# Altium footprint library SOP.PcbLib: 27 footprints (part 1 of 2)
Each footprint in its own frame and in the unit in brackets; x right, y up, seen from the top. Pads: shape width x height; smd on the part's side, far side on the other; paste and mask are expansions set on the pad; w line width, h text height; cw(c..) or ccw(c..) is an arc to the next point about the centre after c.
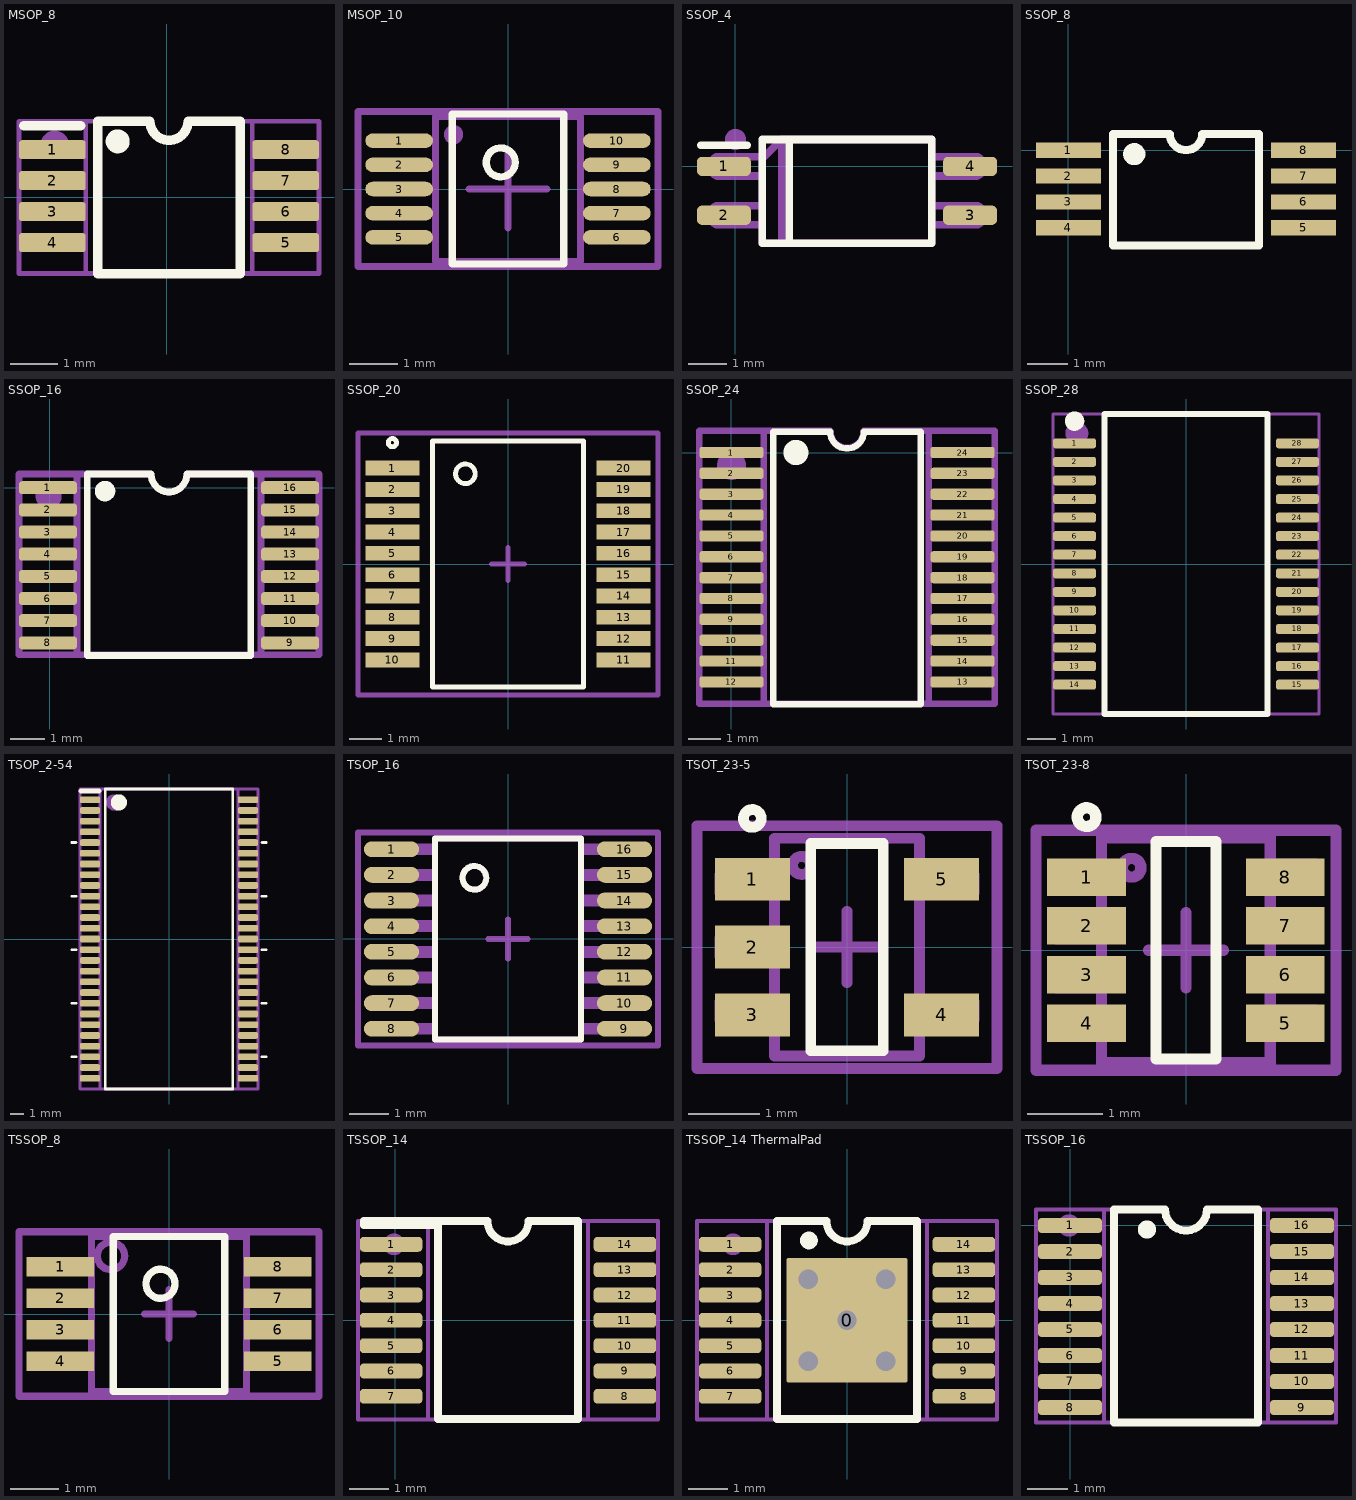
[diagram p0: the footprints below, top view; thin cyan lines are the x and y axes]

## MSOP_8 [mm]
pads (8):
  rrect30% 1.4x0.4 smd: 1(-2.4,1) 2(-2.4,0.35) 3(-2.4,-0.3) 4(-2.4,-0.95) 5(2.5,-0.95) 6(2.5,-0.3) 7(2.5,0.35) 8(2.5,1)
Top Overlay:
  circle w0.25: c-1.027,1.175 r0.127
  lines w0.2: -3,1.5 -1.8,1.5 ; -1.45,-1.6 1.55,-1.6 1.55,1.6 0.45,1.6 cw(c0.05,1.6) -0.35,1.6 -1.45,1.6 -1.45,-1.6
Mechanical 8:
  circle w0.4: c-2.35,1.1 r0.1
  lines w0.1: -1.7,-1.6 -1.7,1.6 ; 1.8,-1.6 1.8,1.6 ; -3.1,-1.6 3.2,-1.6 3.2,1.6 0.45,1.6 cw(c0.05,1.6) -0.35,1.6 -3.1,1.6 -3.1,-1.6
  text ".Designator" at -1.45,-0.4 h1.8
3D body "mSOP-8.step": height 1.1, standoff 0, extent -2.45,-1.5 2.55,1.5

## MSOP_10 [mm]
height 1.1
pads (10):
  oval 1.4x0.3 smd: 1(-2.25,1) 2(-2.25,0.5) 3(-2.25,0) 4(-2.25,-0.5) 5(-2.25,-1) 6(2.25,-1) 7(2.25,-0.5) 8(2.25,0) 9(2.25,0.5) 10(2.25,1)
Top Overlay:
  circle w0.15: c-0.15,0.55 r0.3
  lines w0.15: -1.15,-1.55 -1.15,1.55 1.15,1.55 1.15,-1.55 -1.15,-1.55
  text "." at -2.65,1.6 h0.1
Top Courtyard:
  lines w0.15: -0.8,0 0,0 ; 0,-0.8 0,0 ; 0,0.8 0,0 ; 0.8,0 0,0 ; -3.1,-1.6 -3.1,1.6 3.1,1.6 3.1,-1.6 -3.1,-1.6
Mechanical 29:
  circle w0.15: c-1.125,1.125 r0.125
  lines w0.15: -1.5,-1.075 -1.5,-0.925 ; -1.5,-0.575 -1.5,-0.425 ; -1.5,-0.075 -1.5,0.075 ; -1.5,0.45 -1.5,0.6 ; -1.5,0.925 -1.5,1.075 ; 1.5,-1.075 1.5,-0.925 ; 1.5,-0.575 1.5,-0.425 ; 1.5,-0.075 1.5,0.075 ; 1.5,0.45 1.5,0.6 ; 1.5,0.925 1.5,1.075 ; -1.5,-1.5 0,-1.5 1.5,-1.5 1.5,0 1.5,1.5 0,1.5 -1.5,1.5 -1.5,0 -1.5,-1.5
  text ".Designator" at -1.3,-0.3 h1
3D body "MSOP-10.STEP": height 1.05, standoff 0, extent -2.513,-1.525 2.514,1.475

## SSOP_4 [mm]
pads (4):
  rrect50% 1.4x0.5 smd: 1(-0.3,0) 2(-0.3,-1.27) 3(6.1,-1.27) 4(6.1,0)
Top Overlay:
  lines w0.2: -0.9,0.55 0.3,0.55 ; 1.4,-2 1.4,0.7 ; 0.7,-2 5.1,-2 5.1,0.7 0.7,0.7 0.7,-2
Mechanical 8:
  circle w0.3: c0,0.7 r0.124
  lines w0.2: 0.7,-1.52 -0.45,-1.52 cw(c-0.45,-1.37) -0.6,-1.37 -0.6,-1.17 cw(c-0.45,-1.17) -0.45,-1.02 0.7,-1.02 ; 0.7,-0.25 -0.45,-0.25 cw(c-0.45,-0.1) -0.6,-0.1 -0.6,0.1 cw(c-0.45,0.1) -0.45,0.25 0.7,0.25 ; 1.2,-2 1.2,0.7 ; 5.1,-1.52 6.25,-1.52 ccw(c6.25,-1.37) 6.4,-1.37 6.4,-1.17 ccw(c6.25,-1.17) 6.25,-1.02 5.1,-1.02 ; 5.1,-0.25 6.25,-0.25 ccw(c6.25,-0.1) 6.4,-0.1 6.4,0.1 ccw(c6.25,0.1) 6.25,0.25 5.1,0.25 ; 1.2,0.7 5.1,0.7 5.1,-2 0.7,-2 0.7,0.2 1.2,0.7
  text ".Designator" at 1.6,-1.15 h1.5
3D body "SSOP-4.step": height 2.05, standoff 0.03, extent -0.6,-2 6.4,0.7

## SSOP_8 [mm]
pads (8):
  rect 1.6x0.38 smd: 1(0,0) 2(0,-0.64) 3(0,-1.28) 4(0,-1.92) 5(5.8,-1.92) 6(5.8,-1.28) 7(5.8,-0.64) 8(5.8,0)
Top Overlay:
  circle w0.3: c1.624,-0.1 r0.124
  lines w0.2: 1.1,-2.35 1.1,0.4 2.5,0.4 ccw(c2.9,0.4) 3.3,0.4 4.7,0.4 4.7,-2.35 1.1,-2.35
3D body "SSOP-8-2.STEP": height 1.3, standoff 0, extent -0.33,-2.715 6.07,0.785

## SSOP_16 [mm]
pads (16):
  rrect50% 1.7x0.38 smd: 1(-0.05,0) 2(-0.05,-0.65) 3(-0.05,-1.3) 4(-0.05,-1.95) 5(-0.05,-2.6) 6(-0.05,-3.25) 7(-0.05,-3.9) 8(-0.05,-4.55) 9(7.05,-4.55) 10(7.05,-3.9) 11(7.05,-3.25) 12(7.05,-2.6) 13(7.05,-1.95) 14(7.05,-1.3) 15(7.05,-0.65) 16(7.05,0)
Top Overlay:
  circle w0.3: c1.624,-0.1 r0.15
  lines w0.2: 1.1,-4.925 5.9,-4.925 5.9,0.4 4.025,0.4 cw(c3.5,0.4) 2.975,0.4 1.1,0.4 1.1,-4.925
Mechanical 8:
  circle w0.4: c-0.03,-0.25 r0.18
  lines w0.2: 0.8,-4.9 0.8,0.4 ; 6.2,-4.9 6.2,0.4 ; -0.9,-4.9 7.9,-4.9 7.9,0.4 4.025,0.4 cw(c3.5,0.4) 2.975,0.4 -0.9,0.4 -0.9,-4.9
  text ".Designator" at 1.25,-2.75 h2.4
3D body "SSOP16.step": height 1.97, standoff -0.01, extent -0.5,-5.462 7.4,0.862

## SSOP_20 [mm] "SOP, 20-Leads, Body 7,20x5,29mm, Pitch 0,65mm, IPC Medium Density"
height 1.98
pads (20):
  rect 1.65x0.45 smd: 1(-3.525,2.925) 2(-3.525,2.275) 3(-3.525,1.625) 4(-3.525,0.975) 5(-3.525,0.325) 6(-3.525,-0.325) 7(-3.525,-0.975) 8(-3.525,-1.625) 9(-3.525,-2.275) 10(-3.525,-2.925) 11(3.525,-2.925) 12(3.525,-2.275) 13(3.525,-1.625) 14(3.525,-0.975) 15(3.525,-0.325) 16(3.525,0.325) 17(3.525,0.975) 18(3.525,1.625) 19(3.525,2.275) 20(3.525,2.925)
Top Overlay:
  circle w0.15: c-1.3,2.75 r0.3
  circle w0.15: c-3.525,3.7 r0.125
  lines w0.15: -2.3,-3.75 2.3,-3.75 2.3,3.75 -2.3,3.75 -2.3,-3.75
Top Courtyard:
  lines w0.15: -0.5,0 0.5,0 ; 0,-0.5 0,0.5 ; -4.575,-4 4.575,-4 4.575,4 -4.575,4 -4.575,-4
3D body "TSOP65P650X125-20N.step": height 1.25, standoff 0, extent -3.25,-3.25 3.25,3.25

## SSOP_24 [mm]
pads (24):
  rrect50% 2x0.35 smd: 1(0,0) 2(0,-0.65) 3(0,-1.3) 4(0,-1.95) 5(0,-2.6) 6(0,-3.25) 7(0,-3.9) 8(0,-4.55) 9(0,-5.2) 10(0,-5.85) 11(0,-6.5) 12(0,-7.15) 13(7.2,-7.15) 14(7.2,-6.5) 15(7.2,-5.85) 16(7.2,-5.2) 17(7.2,-4.55) 18(7.2,-3.9) 19(7.2,-3.25) 20(7.2,-2.6) 21(7.2,-1.95) 22(7.2,-1.3) 23(7.2,-0.65) 24(7.2,0)
Top Overlay:
  circle w0.5: c2.009,0 r0.141
  lines w0.2: 1.3,-7.85 1.3,0.65 3.075,0.65 ccw(c3.6,0.65) 4.125,0.65 5.9,0.65 5.9,-7.85 1.3,-7.85
Mechanical 8:
  circle w0.5: c0,-0.4 r0.2
  lines w0.2: 1,-7.825 1,0.675 ; 6.15,-7.825 6.15,0.675 ; -1,-7.825 -1,0.675 3.075,0.675 ccw(c3.6,0.675) 4.125,0.675 8.2,0.675 8.2,-7.825 -1,-7.825
  text ".Designator" at 4.4,-7 h3
3D body "SSOP24.step": height 1.78, standoff -0.21, extent -0.35,-7.9 7.55,0.73

## SSOP_28 [mm]
pads (28):
  rrect50% 1.5x0.35 smd: 1(-3.9,4.225) 2(-3.9,3.575) 3(-3.9,2.925) 4(-3.9,2.275) 5(-3.9,1.625) 6(-3.9,0.975) 7(-3.9,0.325) 8(-3.9,-0.325) 9(-3.9,-0.975) 10(-3.9,-1.625) 11(-3.9,-2.275) 12(-3.9,-2.925) 13(-3.9,-3.575) 14(-3.9,-4.225) 15(3.9,-4.225) 16(3.9,-3.575) 17(3.9,-2.925) 18(3.9,-2.275) 19(3.9,-1.625) 20(3.9,-0.975) 21(3.9,-0.325) 22(3.9,0.325) 23(3.9,0.975) 24(3.9,1.625) 25(3.9,2.275) 26(3.9,2.925) 27(3.9,3.575) 28(3.9,4.225)
Top Overlay:
  circle w0.34: c-3.9,5 r0.17
  lines w0.2: -2.85,-5.25 2.85,-5.25 2.85,5.25 -2.85,5.25 -2.85,-5.25
Mechanical 8:
  circle w0.4: c-3.82,4.575 r0.2
  lines w0.1: -2.85,-5.25 -2.85,5.25 ; 2.85,-5.25 2.85,5.25 ; -4.65,-5.25 4.65,-5.25 4.65,5.25 -4.65,5.25 -4.65,-5.25
  text ".Designator" at 0.675,-4.075 h3.5
3D body "SSOP-28.step": height 1.95, standoff 0, extent -4.112,-5.25 4.113,5.25

## TSOP_2-54 [mm] "TSOP, 54-Leads, Body 22,22x10,16mm, Pitch 0,80mm, IPC Medium Density"
height 1.2
pads (54):
  rrect50% 1.5x0.5 smd: 1(-5.9,10.4) 2(-5.9,9.6) 3(-5.9,8.8) 4(-5.9,8) 5(-5.9,7.2) 6(-5.9,6.4) 7(-5.9,5.6) 8(-5.9,4.8) 9(-5.9,4) 10(-5.9,3.2) 11(-5.9,2.4) 12(-5.9,1.6) 13(-5.9,0.8) 14(-5.9,0) 15(-5.9,-0.8) 16(-5.9,-1.6) 17(-5.9,-2.4) 18(-5.9,-3.2) 19(-5.9,-4) 20(-5.9,-4.8) 21(-5.9,-5.6) 22(-5.9,-6.4) 23(-5.9,-7.2) 24(-5.9,-8) 25(-5.9,-8.8) 26(-5.9,-9.6) 27(-5.9,-10.4) 28(5.9,-10.4) 29(5.9,-9.6) 30(5.9,-8.8) 31(5.9,-8) 32(5.9,-7.2) 33(5.9,-6.4) 34(5.9,-5.6) 35(5.9,-4.8) 36(5.9,-4) 37(5.9,-3.2) 38(5.9,-2.4) 39(5.9,-1.6) 40(5.9,-0.8) 41(5.9,0) 42(5.9,0.8) 43(5.9,1.6) 44(5.9,2.4) 45(5.9,3.2) 46(5.9,4) 47(5.9,4.8) 48(5.9,5.6) 49(5.9,6.4) 50(5.9,7.2) 51(5.9,8) 52(5.9,8.8) 53(5.9,9.6) 54(5.9,10.4)
Top Overlay:
  circle w0.6: c-3.75,10.2 r0.3
  lines w0.2: -7.25,-8.8 -6.95,-8.8 ; -7.25,-4.8 -6.95,-4.8 ; -7.25,-0.8 -6.95,-0.8 ; -7.25,3.2 -6.95,3.2 ; -7.25,7.2 -6.95,7.2 ; 6.95,-8.8 7.25,-8.8 ; 6.95,-4.8 7.25,-4.8 ; 6.95,-0.8 7.25,-0.8 ; 6.95,3.2 7.25,3.2 ; 6.95,7.2 7.25,7.2 ; -4.75,-11.2 4.75,-11.2 4.75,11.2 -4.75,11.2 -4.75,-11.2
  lines w0.4: -6.55,11.05 -5.25,11.05
Mechanical 8:
  circle w0.6: c-4.1,10.2 r0.3
  lines w0.2: -5.15,-11.2 -5.15,11.2 ; 5.15,-11.2 5.15,11.2 ; -6.65,-11.2 -6.65,11.2 6.65,11.2 6.65,-11.2 -6.65,-11.2
  text ".Designator" at -3.9,-1.15 h4.5
3D body "TSOP2-54.STEP": height 1.3, standoff -0.4, extent -5.86,-11.11 5.9,11.11

## TSOP_16 [mm] "TSOP, 16-Leads, Body 5,00x4,40mm, Pitch 0,65mm, IPC Medium Density"
height 1.2
pads (16):
  oval 1.4x0.4 smd: 1(-2.95,2.275) 2(-2.95,1.625) 3(-2.95,0.975) 4(-2.95,0.325) 5(-2.95,-0.325) 6(-2.95,-0.975) 7(-2.95,-1.625) 8(-2.95,-2.275) 9(2.95,-2.275) 10(2.95,-1.625) 11(2.95,-0.975) 12(2.95,-0.325) 13(2.95,0.325) 14(2.95,0.975) 15(2.95,1.625) 16(2.95,2.275)
Top Overlay:
  circle w0.15: c-0.85,1.55 r0.3
  lines w0.15: -1.85,-2.55 1.85,-2.55 1.85,2.55 -1.85,2.55 -1.85,-2.55
  text "." at -2.9,2.9 h0.1
Top Courtyard:
  lines w0.15: -0.5,0 0.5,0 ; 0,-0.5 0,0.5 ; -3.8,-2.7 3.8,-2.7 3.8,2.7 -3.8,2.7 -3.8,-2.7
Mechanical 29:
  circle w0.15: c-0.85,1.55 r0.3
  lines w0.15: -3.425,-2.35 -3.425,-2.2 -1.85,-2.2 -1.85,-2.35 -3.425,-2.35 ; -3.425,-1.7 -1.85,-1.7 -1.85,-1.55 -3.425,-1.55 -3.425,-1.7 ; -3.425,-1.05 -1.85,-1.05 -1.85,-0.9 -3.425,-0.9 -3.425,-1.05 ; -3.425,-0.4 -1.85,-0.4 -1.85,-0.25 -3.425,-0.25 -3.425,-0.4 ; -3.425,0.25 -1.85,0.25 -1.85,0.4 -3.425,0.4 -3.425,0.25 ; -3.425,0.9 -1.85,0.9 -1.85,1.05 -3.425,1.05 -3.425,0.9 ; -3.425,1.55 -1.85,1.55 -1.85,1.7 -3.425,1.7 -3.425,1.55 ; -3.425,2.2 -1.85,2.2 -1.85,2.35 -3.425,2.35 -3.425,2.2 ; -1.85,-2.55 -1.85,2.55 1.85,2.55 1.85,-2.55 -1.85,-2.55 ; 1.85,-2.35 3.425,-2.35 3.425,-2.2 1.85,-2.2 1.85,-2.35 ; 1.85,-1.7 3.425,-1.7 3.425,-1.55 1.85,-1.55 1.85,-1.7 ; 1.85,-1.05 3.425,-1.05 3.425,-0.9 1.85,-0.9 1.85,-1.05 ; 1.85,-0.4 3.425,-0.4 3.425,-0.25 1.85,-0.25 1.85,-0.4 ; 1.85,0.25 3.425,0.25 3.425,0.4 1.85,0.4 1.85,0.25 ; 1.85,0.9 3.425,0.9 3.425,1.05 1.85,1.05 1.85,0.9 ; 1.85,1.55 3.425,1.55 3.425,1.7 1.85,1.7 1.85,1.55 ; 1.85,2.2 3.425,2.2 3.425,2.35 1.85,2.35 1.85,2.2
  text ".Designator" at -1.7,-0.4 h1
3D body "User Library-User Library-TSSOP16.step": height 1.1, standoff 0, extent -3.19,-2.5 3.21,2.5

## TSOT_23-5 [mm]
height 1
pads (5):
  rect 1.05x0.6 smd: 1(-1.325,0.95) 2(-1.325,0) 3(-1.325,-0.95) 4(1.325,-0.95) 5(1.325,0.95)
Top Overlay:
  circle w0.15: c-1.325,1.8 r0.125
  lines w0.15: -0.508,-1.45 -0.508,1.45 0.508,1.45 0.508,-1.45 -0.508,-1.45
Top Courtyard:
  lines w0.15: -0.5,0 0.5,0 ; 0,-0.5 0,0.5 ; -2.1,-1.7 -2.1,1.7 2.1,1.7 2.1,-1.7 -2.1,-1.7
Mechanical 29:
  circle w0.15: c-0.635,1.143 r0.127
  lines w0.15: -1.016,-1.016 -1.778,-1.016 -1.778,-0.762 -1.016,-0.762 ; -1.016,-0.127 -1.778,-0.127 -1.778,0.127 -1.016,0.127 ; -1.016,0 -1.016,0.254 ; 1.016,-1.016 1.778,-1.016 1.778,-0.762 1.016,-0.762 ; -1.778,0.762 -1.778,1.016 -1.016,1.016 -1.016,0.762 -1.778,0.762 ; -1.016,-1.524 -1.016,1.524 1.016,1.524 1.016,-1.524 -1.016,-1.524 ; 1.016,0.762 1.016,1.016 1.778,1.016 1.778,0.762 1.016,0.762
  text ".Designator" at -1.9,1.8 h1
3D body "tsot-23-5.step": height 0.85, standoff -0.13, extent -1.402,-1.45 1.397,1.45

## TSOT_23-8 [mm] "TSOT, 8-Leads, Body 2,90x1,60mm, Pitch 0,65mm, IPC Medium Density"
height 1
pads (8):
  rect 1.05x0.5 smd: 1(-1.325,0.975) 2(-1.325,0.325) 3(-1.325,-0.325) 4(-1.325,-0.975) 5(1.325,-0.975) 6(1.325,-0.325) 7(1.325,0.325) 8(1.325,0.975)
Top Overlay:
  circle w0.15: c-1.325,1.775 r0.125
  lines w0.15: -0.4,-1.45 0.4,-1.45 0.4,1.45 -0.4,1.45 -0.4,-1.45
Top Courtyard:
  lines w0.15: -0.5,0 0.5,0 ; 0,-0.5 0,0.5 ; -2,-1.6 2,-1.6 2,1.6 -2,1.6 -2,-1.6
Mechanical 29:
  circle w0.15: c-0.725,1.1 r0.125
  lines w0.15: -1.725,-1.15 -1.125,-1.15 -1.125,-0.85 -1.725,-0.85 -1.725,-1.15 ; -1.725,-0.5 -1.125,-0.5 -1.125,-0.2 -1.725,-0.2 -1.725,-0.5 ; -1.725,0.15 -1.125,0.15 -1.125,0.45 -1.725,0.45 -1.725,0.15 ; -1.725,0.8 -1.125,0.8 -1.125,1.1 -1.725,1.1 -1.725,0.8 ; -1.125,-1.5 -1.125,1.5 1.125,1.5 1.125,-1.5 -1.125,-1.5 ; 1.125,-1.1 1.725,-1.1 1.725,-0.8 1.125,-0.8 1.125,-1.1 ; 1.125,-0.45 1.725,-0.45 1.725,-0.15 1.125,-0.15 1.125,-0.45 ; 1.125,0.2 1.725,0.2 1.725,0.5 1.125,0.5 1.125,0.2 ; 1.125,0.85 1.125,1.15 1.725,1.15 1.725,0.85 1.125,0.85
  text ".Designator" at -1.9,1.8 h1
3D body "TSOT-23-8.STEP": height 1, standoff 0, extent -1.403,-1.45 1.397,1.45

## TSSOP_8 [mm]
height 1.1
pads (8):
  rect 1.4x0.4 smd: 1(-2.25,0.975) 2(-2.25,0.325) 3(-2.25,-0.325) 4(-2.25,-0.975) 5(2.25,-0.975) 6(2.25,-0.325) 7(2.25,0.325) 8(2.25,0.975)
Top Overlay:
  circle w0.15: c-0.175,0.625 r0.3
  lines w0.15: -1.15,-1.6 1.15,-1.6 1.15,1.6 -1.15,1.6 -1.15,-1.6
  text "." at -2.3,1.7 h0.1
Top Courtyard:
  lines w0.15: -0.5,0 0.5,0 ; 0,-0.5 0,0.5 ; -3.1,-1.7 -3.1,1.7 3.1,1.7 3.1,-1.7 -3.1,-1.7
Mechanical 29:
  circle w0.15: c-1.2,1.2 r0.283
  lines w0.15: -2.6,-1.1 -2.6,-0.9 -1.6,-0.9 -1.6,-1.1 -2.6,-1.1 ; -2.6,-0.4 -2.6,-0.2 -1.6,-0.2 -1.6,-0.4 -2.6,-0.4 ; -2.6,0.2 -2.6,0.4 -1.6,0.4 -1.6,0.2 -2.6,0.2 ; -2.6,0.9 -1.6,0.9 -1.6,1.1 -2.6,1.1 -2.6,0.9 ; -1.6,-1.6 -1.6,1.6 1.6,1.6 1.6,-1.6 -1.6,-1.6 ; 1.6,-1.1 2.6,-1.1 2.6,-0.9 1.6,-0.9 1.6,-1.1 ; 1.6,-0.4 2.6,-0.4 2.6,-0.2 1.6,-0.2 1.6,-0.4 ; 1.6,0.2 2.6,0.2 2.6,0.4 1.6,0.4 1.6,0.2 ; 1.6,0.9 2.6,0.9 2.6,1.1 1.6,1.1 1.6,0.9
  text ".Designator" at -1.3,-0.7 h2
3D body "tssop8.STEP": height 0.9, standoff 0, extent -2.528,-1.6 2.528,1.6

## TSSOP_14 [mm]
pads (14):
  rrect50% 1.6x0.38 smd: 1(-0.1,1.95) 2(-0.1,1.3) 3(-0.1,0.65) 4(-0.1,0) 5(-0.1,-0.65) 6(-0.1,-1.3) 7(-0.1,-1.95) 8(5.9,-1.95) 9(5.9,-1.3) 10(5.9,-0.65) 11(5.9,0) 12(5.9,0.65) 13(5.9,1.3) 14(5.9,1.95)
Top Overlay:
  lines w0.2: 1.1,2.45 -0.8,2.45 -0.8,2.55 1.1,2.55 ; 1.1,2.55 1.1,-2.535 4.7,-2.535 4.7,2.55 3.425,2.55 cw(c2.9,2.55) 2.375,2.55 1.1,2.55
Mechanical 8:
  circle w0.4: c-0.026,1.95 r0.076
  lines w0.1: 0.85,-2.55 0.85,2.55 ; 4.95,-2.55 4.95,2.55 ; -0.95,-2.55 -0.95,2.55 2.375,2.55 ccw(c2.9,2.55) 3.425,2.55 6.75,2.55 6.75,-2.55 -0.95,-2.55
  text ".Designator" at 3.45,-2.25 h2.4
3D body "TSSOP14.step": height 1.2, standoff 0, extent -0.2,-2.55 6.2,2.55

## TSSOP_14 ThermalPad [mm]
pads (15):
  rrect3% 3.1x3.2 smd: 0(0,0)
  rrect50% 1.6x0.38 smd: 1(-3,1.95) 2(-3,1.3) 3(-3,0.65) 4(-3,0) 5(-3,-0.65) 6(-3,-1.3) 7(-3,-1.95) 8(3,-1.95) 9(3,-1.3) 10(3,-0.65) 11(3,0) 12(3,0.65) 13(3,1.3) 14(3,1.95)
via 1,-1.05 diameter 1.1 hole 0.5
via -1,-1.05 diameter 1.1 hole 0.5
via -1,1.05 diameter 1.1 hole 0.5
via 1,1.05 diameter 1.1 hole 0.5
via 0,0 diameter 1.1 hole 0.5
Top Overlay:
  circle w0.3: c-0.976,2.05 r0.076
  lines w0.2: -1.8,-2.535 1.8,-2.535 1.8,2.55 0.525,2.55 cw(c0,2.55) -0.525,2.55 -1.8,2.55 -1.8,-2.535
Mechanical 8:
  circle w0.4: c-2.926,1.95 r0.076
  lines w0.1: -2.05,-2.55 -2.05,2.55 ; 2.05,-2.55 2.05,2.55 ; -3.85,-2.55 -3.85,2.55 -0.525,2.55 ccw(c0,2.55) 0.525,2.55 3.85,2.55 3.85,-2.55 -3.85,-2.55
  text ".Designator" at 0.4,-2.4 h1.8
3D body "TSSOP14.step": height 1.2, standoff 0, extent -3.15,-2.55 3.25,2.55

## TSSOP_16 [mm]
pads (16):
  rrect50% 1.6x0.38 smd: 1(0,0) 2(0,-0.65) 3(0,-1.3) 4(0,-1.95) 5(0,-2.6) 6(0,-3.25) 7(0,-3.9) 8(0,-4.55) 9(5.8,-4.55) 10(5.8,-3.9) 11(5.8,-3.25) 12(5.8,-2.6) 13(5.8,-1.95) 14(5.8,-1.3) 15(5.8,-0.65) 16(5.8,0)
Top Overlay:
  circle w0.3: c1.924,-0.1 r0.076
  lines w0.2: 1.1,-4.925 4.7,-4.925 4.7,0.4 3.425,0.4 cw(c2.9,0.4) 2.375,0.4 1.1,0.4 1.1,-4.925
Mechanical 8:
  circle w0.4: c-0.026,0 r0.076
  lines w0.1: 0.85,-4.925 0.85,0.4 ; 4.95,-4.925 4.95,0.4 ; -0.85,-4.925 -0.85,0.4 2.375,0.4 ccw(c2.9,0.4) 3.425,0.4 6.65,0.4 6.65,-4.925 -0.85,-4.925
  text ".Designator" at 3.45,-4.4 h2.4
3D body "TSSOP-16.step": height 1, standoff 0, extent -0.3,-4.8 6.1,0.2